# Altium footprint library SMCJ5.0A(DO-214AB).PcbLib: 1 footprints
Each footprint in its own frame and in the unit in brackets; x right, y up, seen from the top. Pads: shape width x height; smd on the part's side, far side on the other; paste and mask are expansions set on the pad; w line width, h text height; cw(c..) or ccw(c..) is an arc to the next point about the centre after c.
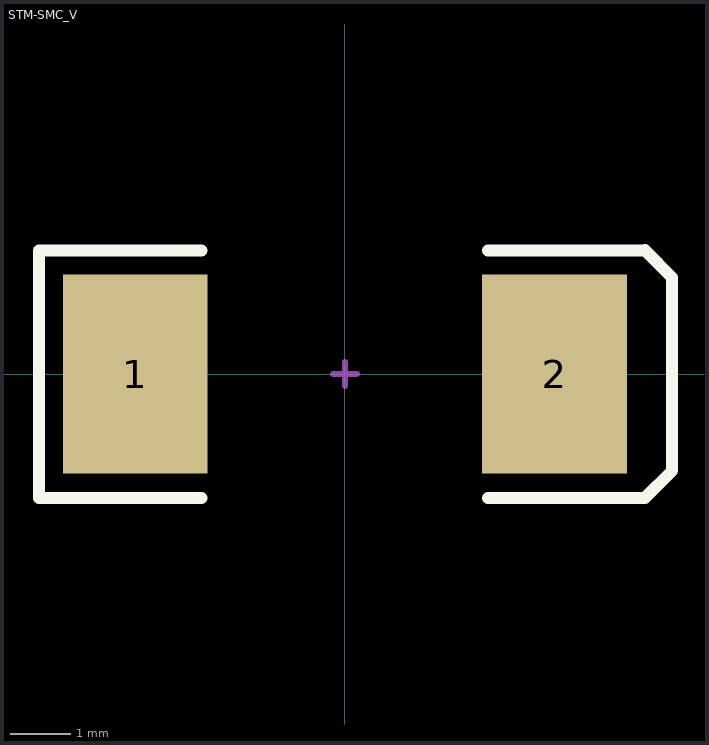
[diagram p0: the footprint, top view; thin cyan lines are the x and y axes]

## STM-SMC_V [mm] "SMT Diode, 2 C-Bend Leads, Body 7.9x5.9mm"
pads (2):
  rect 2.4x3.3 smd: 1(-3.475,0) 2(3.475,0)
Top Overlay:
  lines w0.2: -2.375,-2.05 -5.075,-2.05 -5.075,2.05 -2.375,2.05 ; 2.375,-2.05 4.975,-2.05 5.425,-1.6 5.425,1.6 4.975,2.055 ; 2.375,2.05 4.975,2.05
Mechanical 15:
  lines w0.1: -0.2,0 0.2,0 ; 0,-0.2 0,0.2
3D body: height 2.45, standoff 0.05, extent -3.233,-2.921 3.31,2.921
3D body: height 1, standoff 0.8, extent 2.921,-0.889 3.937,1.27
3D body: height 0.85, standoff 0, extent 3.683,-0.889 3.937,1.27
3D body: height 0.3, standoff 0, extent 3.937,-0.889 4.191,1.27
3D body: height 0.3, standoff 0, extent -4.064,-1.016 -3.81,1.143
3D body: height 0.85, standoff 0, extent -3.81,-1.016 -3.556,1.143
3D body: height 1, standoff 0.8, extent -3.81,-1.016 -2.794,1.143
3D body: height 1.42, standoff 1.39, extent 1.778,-2.73 2.54,2.73